# Altium footprint library mbed-HDK-MF-NXP.PCBLIB: 11 footprints
Each footprint in its own frame and in the unit in brackets; x right, y up, seen from the top. Pads: shape width x height; smd on the part's side, far side on the other; paste and mask are expansions set on the pad; w line width, h text height; cw(c..) or ccw(c..) is an arc to the next point about the centre after c.
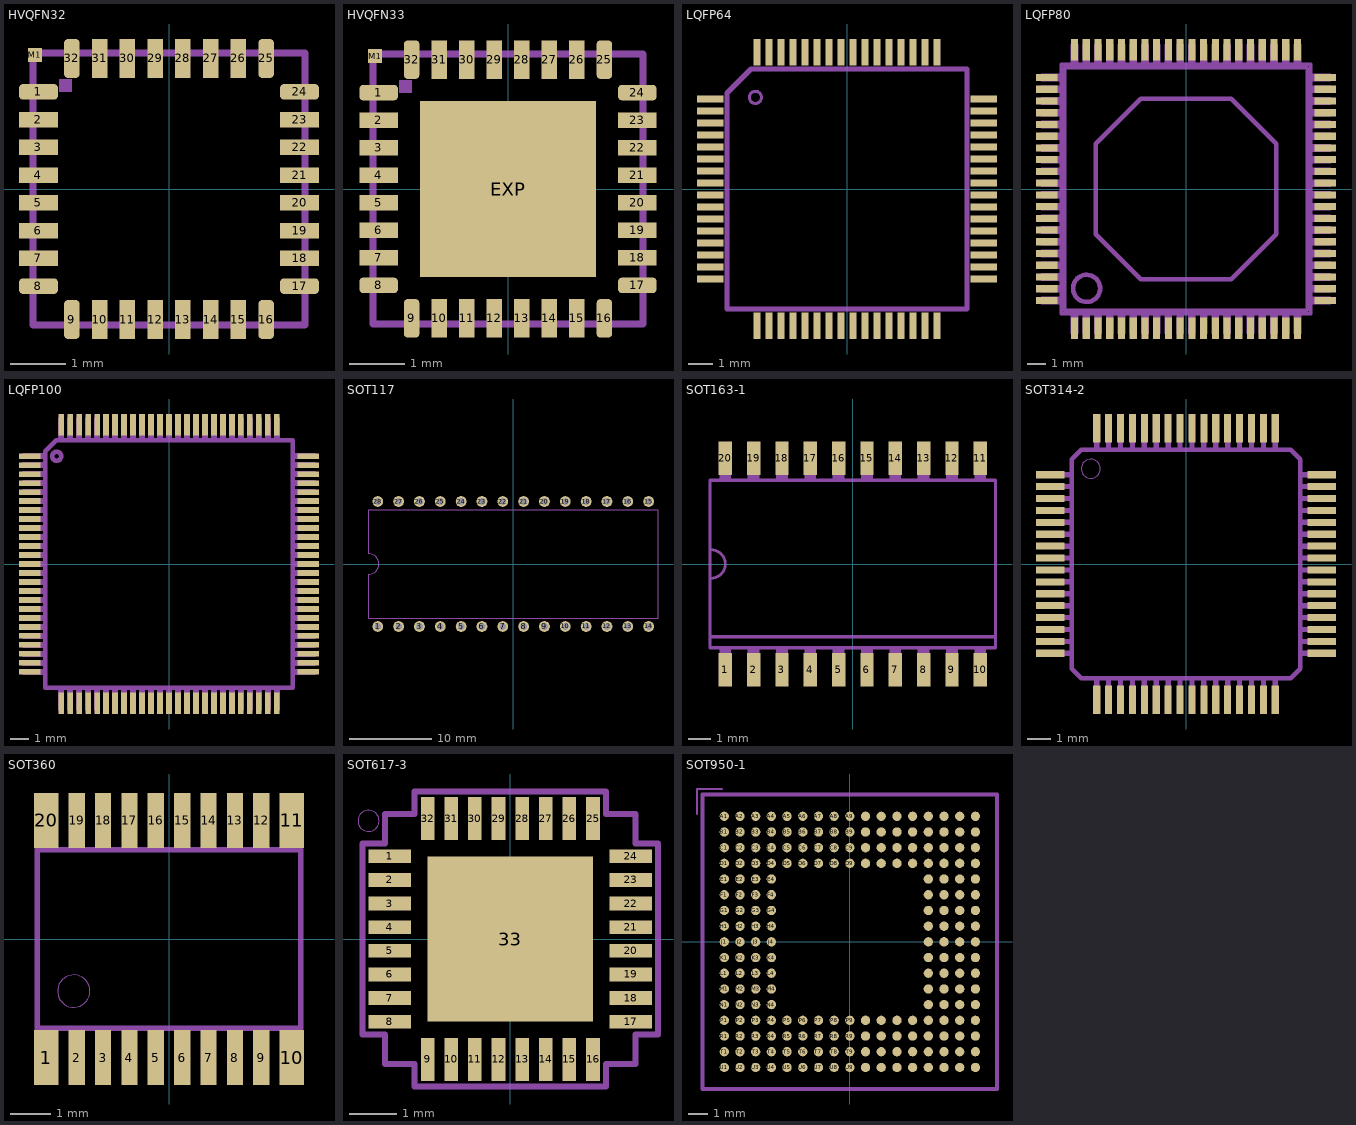
[diagram p0: the footprints below, top view; thin cyan lines are the x and y axes]

## HVQFN32 [mm]
pads (33):
  rrect50% 0.7x0.28 smd: 1(-2.35,1.75) 8(-2.35,-1.75) 17(2.35,-1.75) 24(2.35,1.75)
  rect 0.7x0.28 smd: 2(-2.35,1.25) 3(-2.35,0.75) 4(-2.35,0.25) 5(-2.35,-0.25) 6(-2.35,-0.75) 7(-2.35,-1.25) 18(2.35,-1.25) 19(2.35,-0.75) 20(2.35,-0.25) 21(2.35,0.25) 22(2.35,0.75) 23(2.35,1.25)
  rrect50% 0.28x0.7 smd: 9(-1.75,-2.35) 16(1.75,-2.35) 25(1.75,2.35) 32(-1.75,2.35)
  rect 0.28x0.7 smd: 10(-1.25,-2.35) 11(-0.75,-2.35) 12(-0.25,-2.35) 13(0.25,-2.35) 14(0.75,-2.35) 15(1.25,-2.35) 26(1.25,2.35) 27(0.75,2.35) 28(0.25,2.35) 29(-0.25,2.35) 30(-0.75,2.35) 31(-1.25,2.35)
  rect 0.25x0.25 smd: M1(-2.415,2.415)
Mechanical 3:
  lines w0.127: -2.45,-2 -2.45,2 ; -2,-2.45 2,-2.45 ; -2,2.45 2,2.45 ; 2.45,-2 2.45,2
Mechanical 7:
  region: -1.975,1.75 -1.975,1.975 -1.75,1.975 -1.75,1.75
  lines w0.127: -2.45,-2 -2.45,-2.45 -2,-2.45 ; -2.45,2 -2.45,2.45 -2,2.45 ; 2,-2.45 2.45,-2.45 2.45,-2 ; 2,2.45 2.45,2.45 2.45,2

## HVQFN33 [mm]
pads (34):
  rrect50% 0.7x0.28 smd mask+0: 1(-2.35,1.75) 8(-2.35,-1.75) 17(2.35,-1.75) 24(2.35,1.75)
  rect 0.7x0.28 smd mask+0: 2(-2.35,1.25) 3(-2.35,0.75) 4(-2.35,0.25) 5(-2.35,-0.25) 6(-2.35,-0.75) 7(-2.35,-1.25) 18(2.35,-1.25) 19(2.35,-0.75) 20(2.35,-0.25) 21(2.35,0.25) 22(2.35,0.75) 23(2.35,1.25)
  rrect50% 0.28x0.7 smd mask+0: 9(-1.75,-2.35) 16(1.75,-2.35) 25(1.75,2.35) 32(-1.75,2.35)
  rect 0.28x0.7 smd mask+0: 10(-1.25,-2.35) 11(-0.75,-2.35) 12(-0.25,-2.35) 13(0.25,-2.35) 14(0.75,-2.35) 26(1.25,2.35) 27(0.75,2.35) 28(0.25,2.35) 29(-0.25,2.35) 30(-0.75,2.35) 31(-1.25,2.35)
  rect 0.28x0.7 smd paste+0 mask+0: 15(1.25,-2.35)
  rect 3.2x3.2 smd: EXP(0,0)
  rect 0.25x0.25 smd: M1(-2.415,2.415)
Top Solder:
  region: -1.75,-1.75 -1.75,1.75 1.75,1.75 1.75,-1.75
  region: -2.725,1.575 -2.725,1.925 -1.975,1.925 -1.975,1.575
  region: -2.725,1.075 -2.725,1.425 -1.975,1.425 -1.975,1.075
  region: -2.725,0.575 -2.725,0.925 -1.975,0.925 -1.975,0.575
  region: -2.725,0.075 -2.725,0.425 -1.975,0.425 -1.975,0.075
  region: -2.725,-0.425 -2.725,-0.075 -1.975,-0.075 -1.975,-0.425
  region: -2.725,-0.925 -2.725,-0.575 -1.975,-0.575 -1.975,-0.925
  region: -2.725,-1.425 -2.725,-1.075 -1.975,-1.075 -1.975,-1.425
  region: -2.725,-1.925 -2.725,-1.575 -1.975,-1.575 -1.975,-1.925
  region: -1.575,-2.725 -1.925,-2.725 -1.925,-1.975 -1.575,-1.975
  region: -1.075,-2.725 -1.425,-2.725 -1.425,-1.975 -1.075,-1.975
  region: -0.575,-2.725 -0.925,-2.725 -0.925,-1.975 -0.575,-1.975
  region: -0.075,-2.725 -0.425,-2.725 -0.425,-1.975 -0.075,-1.975
  region: 0.425,-2.725 0.075,-2.725 0.075,-1.975 0.425,-1.975
  region: 0.925,-2.725 0.575,-2.725 0.575,-1.975 0.925,-1.975
  region: 1.425,-2.725 1.075,-2.725 1.075,-1.975 1.425,-1.975
  region: 1.925,-2.725 1.575,-2.725 1.575,-1.975 1.925,-1.975
  region: 2.725,-1.575 2.725,-1.925 1.975,-1.925 1.975,-1.575
  region: 2.725,-1.075 2.725,-1.425 1.975,-1.425 1.975,-1.075
  region: 2.725,-0.575 2.725,-0.925 1.975,-0.925 1.975,-0.575
  region: 2.725,-0.075 2.725,-0.425 1.975,-0.425 1.975,-0.075
  region: 2.725,0.425 2.725,0.075 1.975,0.075 1.975,0.425
  region: 2.725,0.925 2.725,0.575 1.975,0.575 1.975,0.925
  region: 2.725,1.425 2.725,1.075 1.975,1.075 1.975,1.425
  region: 2.725,1.925 2.725,1.575 1.975,1.575 1.975,1.925
  region: 1.575,2.725 1.925,2.725 1.925,1.975 1.575,1.975
  region: 1.075,2.725 1.425,2.725 1.425,1.975 1.075,1.975
  region: 0.575,2.725 0.925,2.725 0.925,1.975 0.575,1.975
  region: 0.075,2.725 0.425,2.725 0.425,1.975 0.075,1.975
  region: -0.425,2.725 -0.075,2.725 -0.075,1.975 -0.425,1.975
  region: -0.925,2.725 -0.575,2.725 -0.575,1.975 -0.925,1.975
  region: -1.425,2.725 -1.075,2.725 -1.075,1.975 -1.425,1.975
  region: -1.925,2.725 -1.575,2.725 -1.575,1.975 -1.925,1.975
Mechanical 3:
  lines w0.127: -2.45,-2 -2.45,2 ; -2,-2.45 2,-2.45 ; -2,2.45 2,2.45 ; 2.45,-2 2.45,2
Mechanical 7:
  region: -1.975,1.75 -1.975,1.975 -1.75,1.975 -1.75,1.75
  lines w0.127: -2.45,-2 -2.45,-2.45 -2,-2.45 ; -2.45,2 -2.45,2.45 -2,2.45 ; 2,-2.45 2.45,-2.45 2.45,-2 ; 2,2.45 2.45,2.45 2.45,2

## LQFP64 [mm]
pads (64):
  rect 1.1x0.285 smd: 1(-5.7,3.75) 2(-5.7,3.25) 3(-5.7,2.75) 4(-5.7,2.25) 5(-5.7,1.75) 6(-5.7,1.25) 7(-5.7,0.75) 8(-5.7,0.25) 9(-5.7,-0.25) 10(-5.7,-0.75) 11(-5.7,-1.25) 12(-5.7,-1.75) 13(-5.7,-2.25) 14(-5.7,-2.75) 15(-5.7,-3.25) 16(-5.7,-3.75) 33(5.7,-3.75) 34(5.7,-3.25) 35(5.7,-2.75) 36(5.7,-2.25) 37(5.7,-1.75) 38(5.7,-1.25) 39(5.7,-0.75) 40(5.7,-0.25) 41(5.7,0.25) 42(5.7,0.75) 43(5.7,1.25) 44(5.7,1.75) 45(5.7,2.25) 46(5.7,2.75) 47(5.7,3.25) 48(5.7,3.75)
  rect 0.285x1.1 smd: 17(-3.75,-5.7) 18(-3.25,-5.7) 19(-2.75,-5.7) 20(-2.25,-5.7) 21(-1.75,-5.7) 22(-1.25,-5.7) 23(-0.75,-5.7) 24(-0.25,-5.7) 25(0.25,-5.7) 26(0.75,-5.7) 27(1.25,-5.7) 28(1.75,-5.7) 29(2.25,-5.7) 30(2.75,-5.7) 31(3.25,-5.7) 32(3.75,-5.7) 49(3.75,5.7) 50(3.25,5.7) 51(2.75,5.7) 52(2.25,5.7) 53(1.75,5.7) 54(1.25,5.7) 55(0.75,5.7) 56(0.25,5.7) 57(-0.25,5.7) 58(-0.75,5.7) 59(-1.25,5.7) 60(-1.75,5.7) 61(-2.25,5.7) 62(-2.75,5.7) 63(-3.25,5.7) 64(-3.75,5.7)
Mechanical 7:
  circle w0.127: c-3.818,3.818 r0.254
  lines w0.203: -5,-5 -5,4 -4,5 5,5 5,-5 -5,-5

## LQFP80 [mm]
pads (80):
  rect 0.4x1.2 smd: 1(-6.175,-7.7) 2(-5.525,-7.7) 3(-4.875,-7.7) 4(-4.225,-7.7) 5(-3.575,-7.7) 6(-2.925,-7.7) 7(-2.275,-7.7) 8(-1.625,-7.7) 9(-0.975,-7.7) 10(-0.325,-7.7) 11(0.325,-7.7) 12(0.975,-7.7) 13(1.625,-7.7) 14(2.275,-7.7) 15(2.925,-7.7) 16(3.575,-7.7) 17(4.225,-7.7) 18(4.875,-7.7) 19(5.525,-7.7) 20(6.175,-7.7) 41(6.175,7.7) 42(5.525,7.7) 43(4.875,7.7) 44(4.225,7.7) 45(3.575,7.7) 46(2.925,7.7) 47(2.275,7.7) 48(1.625,7.7) 49(0.975,7.7) 50(0.325,7.7) 51(-0.325,7.7) 52(-0.975,7.7) 53(-1.625,7.7) 54(-2.275,7.7) 55(-2.925,7.7) 56(-3.575,7.7) 57(-4.225,7.7) 58(-4.875,7.7) 59(-5.525,7.7) 60(-6.175,7.7)
  rect 1.2x0.4 smd: 21(7.7,-6.175) 22(7.7,-5.525) 23(7.7,-4.875) 24(7.7,-4.225) 25(7.7,-3.575) 26(7.7,-2.925) 27(7.7,-2.275) 28(7.7,-1.625) 29(7.7,-0.975) 30(7.7,-0.325) 31(7.7,0.325) 32(7.7,0.975) 33(7.7,1.625) 34(7.7,2.275) 35(7.7,2.925) 36(7.7,3.575) 37(7.7,4.225) 38(7.7,4.875) 39(7.7,5.525) 40(7.7,6.175) 61(-7.7,6.175) 62(-7.7,5.525) 63(-7.7,4.875) 64(-7.7,4.225) 65(-7.7,3.575) 66(-7.7,2.925) 67(-7.7,2.275) 68(-7.7,1.625) 69(-7.7,0.975) 70(-7.7,0.325) 71(-7.7,-0.325) 72(-7.7,-0.975) 73(-7.7,-1.625) 74(-7.7,-2.275) 75(-7.7,-2.925) 76(-7.7,-3.575) 77(-7.7,-4.225) 78(-7.7,-4.875) 79(-7.7,-5.525) 80(-7.7,-6.175)
Mechanical 3:
  drawing of 84 lines, arcs and shapes, not listed
Mechanical 7:
  circle w0.254: c-5.5,-5.5 r0.75
  lines w0.203: -6.72,-6.71 6.71,-6.71 6.71,6.71 -6.72,6.71 -6.72,-6.71
Mechanical 20:
  lines w0.254: -5,-2.5 -5,2.5 -2.5,5 2.5,5 5,2.5 5,-2.5 2.5,-5 -2.5,-5 -5,-2.5
  text "THERMAL" at -2.5,3.675 h1.26
  text "SLUG" at -2.5,2.175 h1.26
  text "LQFP_ED" at -2.5,0.675 h1.26

## LQFP100 [mm]
pads (100):
  rect 1.2x0.32 smd: 1(-7.75,6) 2(-7.75,5.5) 3(-7.75,5) 4(-7.75,4.5) 5(-7.75,4) 6(-7.75,3.5) 7(-7.75,3) 8(-7.75,2.5) 9(-7.75,2) 10(-7.75,1.5) 11(-7.75,1) 12(-7.75,0.5) 13(-7.75,0) 14(-7.75,-0.5) 15(-7.75,-1) 16(-7.75,-1.5) 17(-7.75,-2) 18(-7.75,-2.5) 19(-7.75,-3) 20(-7.75,-3.5) 21(-7.75,-4) 22(-7.75,-4.5) 23(-7.75,-5) 24(-7.75,-5.5) 25(-7.75,-6) 51(7.75,-6) 52(7.75,-5.5) 53(7.75,-5) 54(7.75,-4.5) 55(7.75,-4) 56(7.75,-3.5) 57(7.75,-3) 58(7.75,-2.5) 59(7.75,-2) 60(7.75,-1.5) 61(7.75,-1) 62(7.75,-0.5) 63(7.75,0) 64(7.75,0.5) 65(7.75,1) 66(7.75,1.5) 67(7.75,2) 68(7.75,2.5) 69(7.75,3) 70(7.75,3.5) 71(7.75,4) 72(7.75,4.5) 73(7.75,5) 74(7.75,5.5) 75(7.75,6)
  rect 0.32x1.2 smd: 26(-6,-7.75) 27(-5.5,-7.75) 28(-5,-7.75) 29(-4.5,-7.75) 30(-4,-7.75) 31(-3.5,-7.75) 32(-3,-7.75) 33(-2.5,-7.75) 34(-2,-7.75) 35(-1.5,-7.75) 36(-1,-7.75) 37(-0.5,-7.75) 38(0,-7.75) 39(0.5,-7.75) 40(1,-7.75) 41(1.5,-7.75) 42(2,-7.75) 43(2.5,-7.75) 44(3,-7.75) 45(3.5,-7.75) 46(4,-7.75) 47(4.5,-7.75) 48(5,-7.75) 49(5.5,-7.75) 50(6,-7.75) 76(6,7.75) 77(5.5,7.75) 78(5,7.75) 79(4.5,7.75) 80(4,7.75) 81(3.5,7.75) 82(3,7.75) 83(2.5,7.75) 84(2,7.75) 85(1.5,7.75) 86(1,7.75) 87(0.5,7.75) 88(0,7.75) 89(-0.5,7.75) 90(-1,7.75) 91(-1.5,7.75) 92(-2,7.75) 93(-2.5,7.75) 94(-3,7.75) 95(-3.5,7.75) 96(-4,7.75) 97(-4.5,7.75) 98(-5,7.75) 99(-5.5,7.75) 100(-6,7.75)
Mechanical 3:
  drawing of 100 lines, arcs and shapes, not listed
Mechanical 7:
  drawing of 106 lines, arcs and shapes, not listed

## SOT117 [mil]
pads (28):
  round 52 hole 32: 1(-650,-300) 2(-550,-300) 3(-450,-300) 4(-350,-300) 5(-250,-300) 6(-150,-300) 7(-50,-300) 8(50,-300) 9(150,-300) 10(250,-300) 11(350,-300) 12(450,-300) 13(550,-300) 14(650,-300) 15(650,300) 16(550,300) 17(450,300) 18(350,300) 19(250,300) 20(150,300) 21(50,300) 22(-50,300) 23(-150,300) 24(-250,300) 25(-350,300) 26(-450,300) 27(-550,300) 28(-650,300)
Mechanical 3:
  lines w6: -695,-260 695,-260 ; -695,260 695,260
Mechanical 7:
  lines w6: -685,-260 -695,-260 -695,-50 ccw(c-695,0) -695,50 -695,260 -685,260 ; -615,-260 -585,-260 ; -615,260 -585,260 ; -515,-260 -485,-260 ; -515,260 -485,260 ; -415,-260 -385,-260 ; -415,260 -385,260 ; -315,-260 -285,-260 ; -315,260 -285,260 ; -215,-260 -185,-260 ; -215,260 -185,260 ; -115,-260 -85,-260 ; -115,260 -85,260 ; -15,-260 -10,-260 15,-260 ; -15,260 -10,260 15,260 ; 85,-260 90,-260 115,-260 ; 85,260 90,260 115,260 ; 185,-260 215,-260 ; 185,260 215,260 ; 285,-260 315,-260 ; 285,260 315,260 ; 385,-260 415,-260 ; 385,260 415,260 ; 485,-260 515,-260 ; 485,260 515,260 ; 585,-260 615,-260 ; 585,260 615,260 ; 685,-260 695,-260 695,260 685,260

## SOT163-1 [mm]
pads (20):
  rect 0.6x1.5 smd: 1(-5.715,-4.75) 2(-4.445,-4.75) 3(-3.175,-4.75) 4(-1.905,-4.75) 5(-0.635,-4.75) 6(0.635,-4.75) 7(1.905,-4.75) 8(3.175,-4.75) 9(4.445,-4.75) 10(5.715,-4.75) 11(5.715,4.75) 12(4.445,4.75) 13(3.175,4.75) 14(1.905,4.75) 15(0.635,4.75) 16(-0.635,4.75) 17(-1.905,4.75) 18(-3.175,4.75) 19(-4.445,4.75) 20(-5.715,4.75)
Mechanical 3:
  region: -0.889,3.75 -0.889,4.75 -0.381,4.75 -0.381,3.75
  region: -2.159,3.75 -2.159,4.75 -1.651,4.75 -1.651,3.75
  region: -3.429,3.75 -3.429,4.75 -2.921,4.75 -2.921,3.75
  region: -4.699,3.75 -4.699,4.75 -4.191,4.75 -4.191,3.75
  region: 0.381,3.75 0.381,4.75 0.889,4.75 0.889,3.75
  region: 1.651,3.75 1.651,4.75 2.159,4.75 2.159,3.75
  region: 2.921,3.75 2.921,4.75 3.429,4.75 3.429,3.75
  region: 4.191,3.75 4.191,4.75 4.699,4.75 4.699,3.75
  region: -0.889,-4.75 -0.889,-3.75 -0.381,-3.75 -0.381,-4.75
  region: -2.159,-4.75 -2.159,-3.75 -1.651,-3.75 -1.651,-4.75
  region: -3.429,-4.75 -3.429,-3.75 -2.921,-3.75 -2.921,-4.75
  region: -4.699,-4.75 -4.699,-3.75 -4.191,-3.75 -4.191,-4.75
  region: 0.381,-4.75 0.381,-3.75 0.889,-3.75 0.889,-4.75
  region: 1.651,-4.75 1.651,-3.75 2.159,-3.75 2.159,-4.75
  region: 2.921,-4.75 2.921,-3.75 3.429,-3.75 3.429,-4.75
  region: 4.191,-4.75 4.191,-3.75 4.699,-3.75 4.699,-4.75
  region: 5.461,3.75 5.461,4.75 5.969,4.75 5.969,3.75
  region: -5.969,3.75 -5.969,4.75 -5.461,4.75 -5.461,3.75
  region: 5.461,-4.75 5.461,-3.75 5.969,-3.75 5.969,-4.75
  region: -5.969,-4.75 -5.969,-3.75 -5.461,-3.75 -5.461,-4.75
Mechanical 7:
  lines w0.127: -6.35,-0.635 ccw(c-6.35,0) -6.35,0.635
  lines w0.152: -6.4,-3.27 -6.4,3.75 6.4,3.75 6.4,-3.27 ; -6.4,-3.27 -6.4,-3.75 6.4,-3.75 6.4,-3.27 ; -6.4,-3.27 6.4,-3.27

## SOT314-2 [mm]
pads (64):
  rect 1.2x0.3 smd: 1(-5.7,3.75) 2(-5.7,3.25) 3(-5.7,2.75) 4(-5.7,2.25) 5(-5.7,1.75) 6(-5.7,1.25) 7(-5.7,0.75) 8(-5.7,0.25) 9(-5.7,-0.25) 10(-5.7,-0.75) 11(-5.7,-1.25) 12(-5.7,-1.75) 13(-5.7,-2.25) 14(-5.7,-2.75) 15(-5.7,-3.25) 16(-5.7,-3.75) 33(5.7,-3.75) 34(5.7,-3.25) 35(5.7,-2.75) 36(5.7,-2.25) 37(5.7,-1.75) 38(5.7,-1.25) 39(5.7,-0.75) 40(5.7,-0.25) 41(5.7,0.25) 42(5.7,0.75) 43(5.7,1.25) 44(5.7,1.75) 45(5.7,2.25) 46(5.7,2.75) 47(5.7,3.25) 48(5.7,3.75)
  rect 0.3x1.2 smd: 17(-3.75,-5.7) 18(-3.25,-5.7) 19(-2.75,-5.7) 20(-2.25,-5.7) 21(-1.75,-5.7) 22(-1.25,-5.7) 23(-0.75,-5.7) 24(-0.25,-5.7) 25(0.25,-5.7) 26(0.75,-5.7) 27(1.25,-5.7) 28(1.75,-5.7) 29(2.25,-5.7) 30(2.75,-5.7) 31(3.25,-5.7) 32(3.75,-5.7) 49(3.75,5.7) 50(3.25,5.7) 51(2.75,5.7) 52(2.25,5.7) 53(1.75,5.7) 54(1.25,5.7) 55(0.75,5.7) 56(0.25,5.7) 57(-0.25,5.7) 58(-0.75,5.7) 59(-1.25,5.7) 60(-1.75,5.7) 61(-2.25,5.7) 62(-2.75,5.7) 63(-3.25,5.7) 64(-3.75,5.7)
Mechanical 3:
  drawing of 64 lines, arcs and shapes, not listed
Mechanical 7:
  circle w0: c-4,4 r0.4
  lines w0.203: -4.8,-4.4 -4.4,-4.8 4.4,-4.8 4.8,-4.4 4.8,4.4 4.4,4.8 -4.4,4.8 -4.8,4.4 -4.8,-4.4

## SOT360 [mm]
pads (20):
  rect 0.6x1.35 smd: 1(-3.025,-2.925) 10(3.025,-2.925) 11(3.025,2.925) 20(-3.025,2.925)
  rect 0.4x1.35 smd: 2(-2.275,-2.925) 3(-1.625,-2.925) 4(-0.975,-2.925) 5(-0.325,-2.925) 6(0.325,-2.925) 7(0.975,-2.925) 8(1.625,-2.925) 9(2.275,-2.925) 12(2.275,2.925) 13(1.625,2.925) 14(0.975,2.925) 15(0.325,2.925) 16(-0.325,2.925) 17(-0.975,2.925) 18(-1.625,2.925) 19(-2.275,2.925)
Mechanical 3:
  region: 0.2,2.2 0.2,3.2 0.45,3.2 0.45,2.2
  region: -0.45,2.2 -0.45,3.2 -0.2,3.2 -0.2,2.2
  region: -1.1,2.2 -1.1,3.2 -0.85,3.2 -0.85,2.2
  region: -1.75,2.2 -1.75,3.2 -1.5,3.2 -1.5,2.2
  region: -2.4,2.2 -2.4,3.2 -2.15,3.2 -2.15,2.2
  region: -3.05,2.2 -3.05,3.2 -2.8,3.2 -2.8,2.2
  region: 0.85,2.2 0.85,3.2 1.1,3.2 1.1,2.2
  region: 1.5,2.2 1.5,3.2 1.75,3.2 1.75,2.2
  region: 2.15,2.2 2.15,3.2 2.4,3.2 2.4,2.2
  region: 2.8,2.2 2.8,3.2 3.05,3.2 3.05,2.2
  region: -3.05,-3.2 -3.05,-2.2 -2.8,-2.2 -2.8,-3.2
  region: -2.4,-3.2 -2.4,-2.2 -2.15,-2.2 -2.15,-3.2
  region: -1.75,-3.2 -1.75,-2.2 -1.5,-2.2 -1.5,-3.2
  region: -1.1,-3.2 -1.1,-2.2 -0.85,-2.2 -0.85,-3.2
  region: -0.45,-3.2 -0.45,-2.2 -0.2,-2.2 -0.2,-3.2
  region: 0.2,-3.2 0.2,-2.2 0.45,-2.2 0.45,-3.2
  region: 0.85,-3.2 0.85,-2.2 1.1,-2.2 1.1,-3.2
  region: 1.5,-3.2 1.5,-2.2 1.75,-2.2 1.75,-3.2
  region: 2.15,-3.2 2.15,-2.2 2.4,-2.2 2.4,-3.2
  region: 2.8,-3.2 2.8,-2.2 3.05,-2.2 3.05,-3.2
  lines w0.127: -3.25,-2.2 3.25,-2.2 3.25,2.2 -3.25,2.2 -3.25,-2.2
Mechanical 7:
  circle w0: c-2.35,-1.285 r0.4
  lines w0.127: -3.25,-2 -3.25,2 ; 3.25,-2 3.25,2

## SOT617-3 [mm]
pads (33):
  rect 0.9x0.29 smd: 1(-2.55,1.75) 2(-2.55,1.25) 3(-2.55,0.75) 4(-2.55,0.25) 5(-2.55,-0.25) 6(-2.55,-0.75) 7(-2.55,-1.25) 8(-2.55,-1.75) 17(2.55,-1.75) 18(2.55,-1.25) 19(2.55,-0.75) 20(2.55,-0.25) 21(2.55,0.25) 22(2.55,0.75) 23(2.55,1.25) 24(2.55,1.75)
  rect 0.29x0.9 smd: 9(-1.75,-2.55) 10(-1.25,-2.55) 11(-0.75,-2.55) 12(-0.25,-2.55) 13(0.25,-2.55) 14(0.75,-2.55) 15(1.25,-2.55) 16(1.75,-2.55) 25(1.75,2.55) 26(1.25,2.55) 27(0.75,2.55) 28(0.25,2.55) 29(-0.25,2.55) 30(-0.75,2.55) 31(-1.25,2.55) 32(-1.75,2.55)
  rect 3.5x3.5 smd paste+0: 33(0,0)
Top Paste:
  region: -0.25,-0.25 -0.25,0.25 0.25,0.25 0.25,-0.25
  region: -1.05,-0.25 -1.05,0.25 -0.55,0.25 -0.55,-0.25
  region: 0.55,-0.25 0.55,0.25 1.05,0.25 1.05,-0.25
  region: -0.25,0.55 -0.25,1.05 0.25,1.05 0.25,0.55
  region: -0.25,-1.05 -0.25,-0.55 0.25,-0.55 0.25,-1.05
  region: 0.55,0.55 0.55,1.05 1.05,1.05 1.05,0.55
  region: -1.05,0.55 -1.05,1.05 -0.55,1.05 -0.55,0.55
  region: -1.05,-1.05 -1.05,-0.55 -0.55,-0.55 -0.55,-1.05
  region: 0.55,-1.05 0.55,-0.55 1.05,-0.55 1.05,-1.05
Mechanical 3:
  lines w0.127: -3.125,-2.025 -3.125,2.025 -2.65,2.025 -2.65,2.65 -2.025,2.65 -2.025,3.125 2.025,3.125 2.025,2.65 2.65,2.65 2.65,2.025 3.125,2.025 3.125,-2.025 2.65,-2.025 2.65,-2.65 2.025,-2.65 2.025,-3.125 -2.025,-3.125 -2.025,-2.65 -2.65,-2.65 -2.65,-2.025 -3.125,-2.025
Mechanical 7:
  circle w0: c-3,2.5 r0.224
  lines w0.127: -2.65,-2.15 -2.65,-2.65 -2.15,-2.65 ; -2.65,2.15 -2.65,2.65 -2.15,2.65 ; 2.15,-2.65 2.65,-2.65 2.65,-2.15 ; 2.15,2.65 2.65,2.65 2.65,2.15

## SOT950-1 [mm]
pads (208):
  rrect100% 0.475x0.475 smd paste+0 mask+0: A1(-6.4,6.4) A2(-5.6,6.4) A3(-4.8,6.4) A4(-4,6.4) A5(-3.2,6.4) A6(-2.4,6.4) A7(-1.6,6.4) A8(-0.8,6.4) A9(0,6.4) A10(0.8,6.4) A11(1.6,6.4) A12(2.4,6.4) A13(3.2,6.4) A14(4,6.4) A15(4.8,6.4) A16(5.6,6.4) A17(6.4,6.4) B1(-6.4,5.6) B2(-5.6,5.6) B3(-4.8,5.6) B4(-4,5.6) B5(-3.2,5.6) B6(-2.4,5.6) B7(-1.6,5.6) B8(-0.8,5.6) B9(0,5.6) B10(0.8,5.6) B11(1.6,5.6) B12(2.4,5.6) B13(3.2,5.6) B14(4,5.6) B15(4.8,5.6) B16(5.6,5.6) B17(6.4,5.6) C1(-6.4,4.8) C2(-5.6,4.8) C3(-4.8,4.8) C4(-4,4.8) C5(-3.2,4.8) C6(-2.4,4.8) C7(-1.6,4.8) C8(-0.8,4.8) C9(0,4.8) C10(0.8,4.8) C11(1.6,4.8) C12(2.4,4.8) C13(3.2,4.8) C14(4,4.8) C15(4.8,4.8) C16(5.6,4.8) C17(6.4,4.8) D1(-6.4,4) D2(-5.6,4) D3(-4.8,4) D4(-4,4) D5(-3.2,4) D6(-2.4,4) D7(-1.6,4) D8(-0.8,4) D9(0,4) D10(0.8,4) D11(1.6,4) D12(2.4,4) D13(3.2,4) D14(4,4) D15(4.8,4) D16(5.6,4) D17(6.4,4) E1(-6.4,3.2) E2(-5.6,3.2) E3(-4.8,3.2) E4(-4,3.2) E14(4,3.2) E15(4.8,3.2) E16(5.6,3.2) E17(6.4,3.2) F1(-6.4,2.4) F2(-5.6,2.4) F3(-4.8,2.4) F4(-4,2.4) F14(4,2.4) F15(4.8,2.4) F16(5.6,2.4) F17(6.4,2.4) G1(-6.4,1.6) G2(-5.6,1.6) G3(-4.8,1.6) G4(-4,1.6) G14(4,1.6) G15(4.8,1.6) G16(5.6,1.6) G17(6.4,1.6) H1(-6.4,0.8) H2(-5.6,0.8) H3(-4.8,0.8) H4(-4,0.8) H14(4,0.8) H15(4.8,0.8) H16(5.6,0.8) H17(6.4,0.8) J1(-6.4,0) J2(-5.6,0) J3(-4.8,0) J4(-4,0) J14(4,0) J15(4.8,0) J16(5.6,0) J17(6.4,0) K1(-6.4,-0.8) K2(-5.6,-0.8) K3(-4.8,-0.8) K4(-4,-0.8) K14(4,-0.8) K15(4.8,-0.8) K16(5.6,-0.8) K17(6.4,-0.8) L1(-6.4,-1.6) L2(-5.6,-1.6) L3(-4.8,-1.6) L4(-4,-1.6) L14(4,-1.6) L15(4.8,-1.6) L16(5.6,-1.6) L17(6.4,-1.6) M1(-6.4,-2.4) M2(-5.6,-2.4) M3(-4.8,-2.4) M4(-4,-2.4) M14(4,-2.4) M15(4.8,-2.4) M16(5.6,-2.4) M17(6.4,-2.4) N1(-6.4,-3.2) N2(-5.6,-3.2) N3(-4.8,-3.2) N4(-4,-3.2) N14(4,-3.2) N15(4.8,-3.2) N16(5.6,-3.2) N17(6.4,-3.2) P1(-6.4,-4) P2(-5.6,-4) P3(-4.8,-4) P4(-4,-4) P5(-3.2,-4) P6(-2.4,-4) P7(-1.6,-4) P8(-0.8,-4) P9(0,-4) P10(0.8,-4) P11(1.6,-4) P12(2.4,-4) P13(3.2,-4) P14(4,-4) P15(4.8,-4) P16(5.6,-4) P17(6.4,-4) R1(-6.4,-4.8) R2(-5.6,-4.8) R3(-4.8,-4.8) R4(-4,-4.8) R5(-3.2,-4.8) R6(-2.4,-4.8) R7(-1.6,-4.8) R8(-0.8,-4.8) R9(0,-4.8) R10(0.8,-4.8) R11(1.6,-4.8) R12(2.4,-4.8) R13(3.2,-4.8) R14(4,-4.8) R15(4.8,-4.8) R16(5.6,-4.8) R17(6.4,-4.8) T1(-6.4,-5.6) T2(-5.6,-5.6) T3(-4.8,-5.6) T4(-4,-5.6) T5(-3.2,-5.6) T6(-2.4,-5.6) T7(-1.6,-5.6) T8(-0.8,-5.6) T9(0,-5.6) T10(0.8,-5.6) T11(1.6,-5.6) T12(2.4,-5.6) T13(3.2,-5.6) T14(4,-5.6) T15(4.8,-5.6) T16(5.6,-5.6) T17(6.4,-5.6) U1(-6.4,-6.4) U2(-5.6,-6.4) U3(-4.8,-6.4) U4(-4,-6.4) U5(-3.2,-6.4) U6(-2.4,-6.4) U7(-1.6,-6.4) U8(-0.8,-6.4) U9(0,-6.4) U10(0.8,-6.4) U11(1.6,-6.4) U12(2.4,-6.4) U13(3.2,-6.4) U14(4,-6.4) U15(4.8,-6.4) U16(5.6,-6.4) U17(6.4,-6.4)
Top Paste:
  drawing of 208 lines, arcs and shapes, not listed
Top Solder:
  drawing of 208 lines, arcs and shapes, not listed
Mechanical 7:
  lines w0.127: -7.79,6.54 -7.79,7.79 -6.54,7.79
  lines w0.203: -7.5,-7.5 7.5,-7.5 7.5,7.5 -7.5,7.5 -7.5,-7.5